# Altium footprint library Components - 31.03.22 - 06.58.PcbLib: 1 footprints
Each footprint in its own frame and in the unit in brackets; x right, y up, seen from the top. Pads: shape width x height; smd on the part's side, far side on the other; paste and mask are expansions set on the pad; w line width, h text height; cw(c..) or ccw(c..) is an arc to the next point about the centre after c.
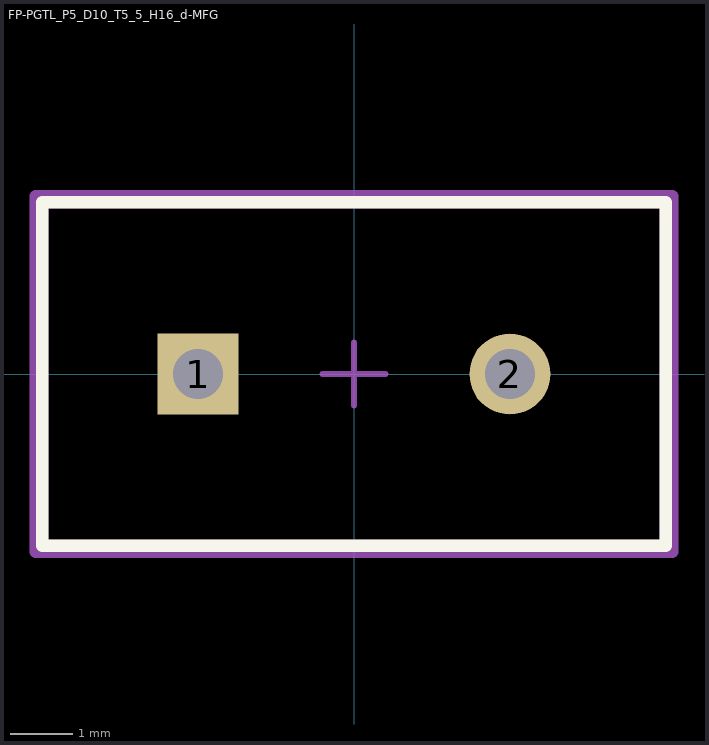
[diagram p0: the footprint, top view; thin cyan lines are the x and y axes]

## FP-PGTL_P5_D10_T5_5_H16_d-MFG [mm]
pads (2):
  rect 1.3x1.3 hole 0.8 paste-1000 mask+0: 1(-2.5,0)
  round 1.3 hole 0.8 paste-1000 mask+0: 2(2.5,0)
Top Overlay:
  lines w0.2: -5,-2.75 -5,2.75 5,2.75 5,-2.75 -5,-2.75
Top Assembly:
  lines w0.2: -5.1,-2.85 -5.1,2.85 5.1,2.85 5.1,-2.85 -5.1,-2.85
  text ".Designator" at 0,-0.001 h1
Top 3D Body:
  lines w0.2: -5,-2.75 -5,2.75 5,2.75 5,-2.75 -5,-2.75
Top Courtyard:
  lines w0.2: -5.1,-2.85 -5.1,2.85 5.1,2.85 5.1,-2.85 -5.1,-2.85
Top Component Center:
  lines w0.1: -0.5,0 0.5,0 ; 0,-0.5 0,0.5
3D body "Res_Murata_Electronics_North_America_PTGL09AR220M6B52B0_eec.STEP": height 0.25, standoff 0, extent -5.1,-2.85 5.1,2.85